# EAGLE library part LINKPORT (library Game Boy)
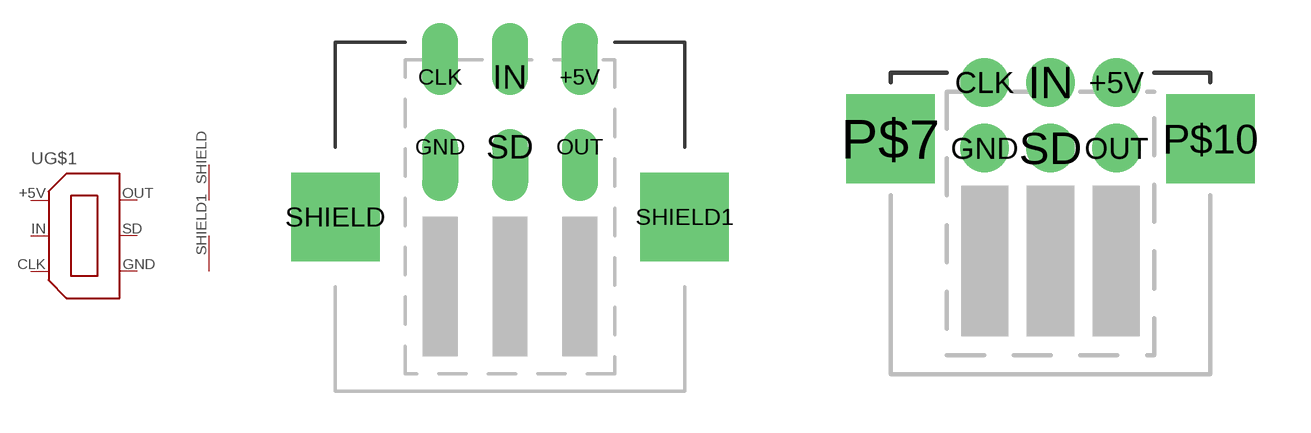
[diagram p0: symbol with the pads of DMG-LINK; footprints DMG-LINK, CGB-LINK]

Designator prefix -; gates G$1=LINK G$2=PWRGND G$3=PWRGND

## LINKPORTDMG-LINK  [DMG-LINK]
+5V  G$1:+5V
CLK  G$1:CLK
GND  G$1:GND
IN  G$1:IN
OUT  G$1:OUT
SD  G$1:SD
SHIELD  G$2:GND  pwr
SHIELD1  G$3:GND  pwr

## LINKPORTCGB-LINK  [CGB-LINK]
+5V  G$1:+5V
CLK  G$1:CLK
GND  G$1:GND
IN  G$1:IN
OUT  G$1:OUT
P$7  G$2:GND  pwr
P$10  G$3:GND  pwr
SD  G$1:SD

## Footprint DMG-LINK (pad centres in mm)
drill 0.8 offset: +5V 2.54,5.08; CLK -2.54,5.08; GND -2.54,2.54; IN 0,5.08; OUT 2.54,2.54; SD 0,2.54
drill 2.2 square: SHIELD -6.35,0; SHIELD1 6.35,0

## Footprint CGB-LINK (pad centres in mm)
drill 0.8: +5V 1.778,1.778; CLK -1.778,1.778; GND -1.778,0; IN 0,1.778; OUT 1.778,0; SD 0,0
drill 1.6 pad 2.184 square: P$7 -4.318,0.254; P$10 4.318,0.254